# Altium footprint library PcbLib_Motorvermogen.PcbLib: 20 footprints (part 2 of 2)
Each footprint in its own frame and in the unit in brackets; x right, y up, seen from the top. Pads: shape width x height; smd on the part's side, far side on the other; paste and mask are expansions set on the pad; w line width, h text height; cw(c..) or ccw(c..) is an arc to the next point about the centre after c.
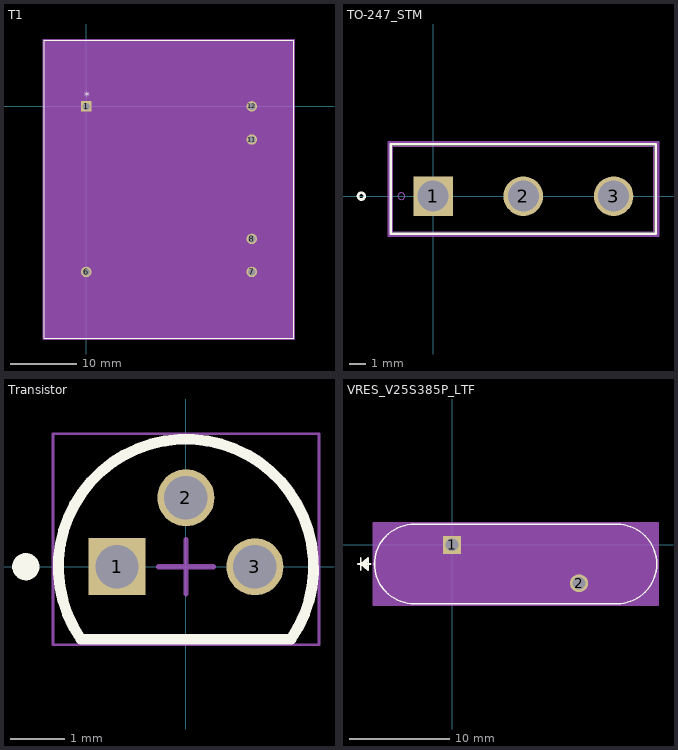
[diagram p1: the footprints below, top view; thin cyan lines are the x and y axes]

## T1 [mil]
pads (6):
  rect 62x62 / inner round 60 / far side rect 62x62 hole 42 paste-99999 mask+0: 1(0,0)
  round 62 / inner round 60 / far side round 62 hole 42 paste-99999 mask+0: 6(0,-984.25) 7(984.25,-984.25) 8(984.25,-787.4) 11(984.25,-196.85) 12(984.25,0)
Top Overlay:
  lines w6: -250.87,-1378.13 -250.87,393.87 1235.13,393.87 1235.13,-1378.13 -250.87,-1378.13
  text "*" at -12.5,36 h50
Mechanical 13:
  lines w0: 480.13,388.87 ccw(c492.13,388.87) 504.13,388.87
  lines w1: -245.87,-1373.13 -245.87,388.87 1230.13,388.87 1230.13,-1373.13 -245.87,-1373.13 ; -245.87,-1005.25 -21,-1005.25 -21,-963.25 -245.87,-963.25 -245.87,-1005.25 ; -245.87,-21 -21,-21 -21,21 -245.87,21 -245.87,-21 ; 1005.25,-1005.25 1005.25,-963.25 1230.13,-963.25 1230.13,-1005.25 1005.25,-1005.25 ; 1005.25,-808.4 1005.25,-766.4 1230.13,-766.4 1230.13,-808.4 1005.25,-808.4 ; 1005.25,-217.85 1005.25,-175.85 1230.13,-175.85 1230.13,-217.85 1005.25,-217.85 ; 1005.25,-21 1005.25,21 1230.13,21 1230.13,-21 1005.25,-21
  text "*" at -248.37,-25 h50
Mechanical 15:
  region: 1240.13,-1025.25 1240.13,41 1240.13,398.87 -255.87,398.87 -255.87,41 -255.87,-1025.25 -255.87,-1383.13 1240.13,-1383.13
  lines w6: -255.87,-1383.13 1240.13,-1383.13 1240.13,-1025.25 1240.13,41 1240.13,398.87 -255.87,398.87 -255.87,41 -255.87,-1025.25 -255.87,-1383.13
3D body "44239_MYR.step": height 1294.09, standoff -100, extent -5,-1373.11 993.86,388.86

## TO-247_STM [mil]
pads (3):
  rect 94x94 / inner round 60 / far side rect 94x94 hole 74 paste-99999 mask-47: 1(0,0)
  round 94 / inner round 60 / far side round 94 hole 74 paste-99999 mask-47: 2(214.57,0) 3(429.13,0)
Top Overlay:
  circle w6: c-170.43,0 r8
  lines w6: -100.43,-89.5 529.57,-89.5 529.57,123.5 -100.43,123.5 -100.43,-89.5
Mechanical 13:
  circle w0: c-75.43,0 r8
  lines w1: -95.43,-84.5 524.57,-84.5 524.57,118.5 -95.43,118.5 -95.43,-84.5
  lines w6: -10,0 10,0 ; 0,-10 0,10
Mechanical 15:
  lines w6: -105.43,-94.5 -105.43,128.5 534.57,128.5 534.57,-94.5 -105.43,-94.5

## Transistor [mm] "TO, 3-Leads, Body Dia 4.7mm, Pitch 1.27mm"
height 7.87
pads (3):
  rect 1.05x1.05 hole 0.8: 1(-1.27,0)
  round 1.05 hole 0.8: 2(0,1.27) 3(1.27,0)
Top Overlay:
  circle w0.25: c-2.95,0 r0.125
  lines w0.2: -1.934,-1.335 cw(c0,0) 1.934,-1.335 -1.934,-1.335
Mechanical 13:
  lines w0.1: -1.934,-1.335 cw(c0,0) 1.934,-1.335 -1.934,-1.335
Mechanical 15:
  lines w0.05: -2.45,-1.435 2.45,-1.435 2.45,2.45 -2.45,2.45 -2.45,-1.435
  lines w0.1: -0.5,0 0.5,0 ; 0,-0.5 0,0.5
3D body: height 7.87, standoff 2.54, extent -2.349,-1.334 2.357,2.359

## VRES_V25S385P_LTF [mil]
pads (2):
  rect 71x71 / inner round 60 / far side rect 71x71 hole 51 paste-99999 mask+0: 1(0,0)
  round 71 / inner round 60 / far side round 71 hole 51 paste-99999 mask+0: 2(500,-151.57)
Top Overlay:
  lines w6: -371,-75.79 -321,-75.79 ; -361,-100.79 -361,-50.79 ; -331,-95.79 -361,-75.79 ; -331,-90.79 -361,-75.79 ; -331,-85.79 -361,-75.79 ; -331,-80.79 -361,-75.79 ; -331,-70.79 -361,-75.79 ; -331,-65.79 -361,-75.79 ; -331,-60.79 -361,-75.79 ; -331,-55.79 -361,-75.79 ; -361,-75.79 -331,-100.79 -331,-50.79 -361,-75.79 ; -149.5,-232.29 cw(c-149.5,-75.79) -149.5,80.71 649.5,80.71 cw(c649.5,-75.79) 806,-75.79 cw(c649.5,-75.79) 649.5,-232.29 -149.5,-232.29
Mechanical 13:
  lines w0: -149.5,-227.29 cw(c-149.5,-75.79) -149.5,75.71 ; 649.5,-227.29 ccw(c649.5,-75.79) 649.5,75.71
  lines w1: -371,-75.79 -321,-75.79 ; -361,-100.79 -361,-50.79 ; -331,-95.79 -361,-75.79 ; -331,-90.79 -361,-75.79 ; -331,-85.79 -361,-75.79 ; -331,-80.79 -361,-75.79 ; -331,-70.79 -361,-75.79 ; -331,-65.79 -361,-75.79 ; -331,-60.79 -361,-75.79 ; -331,-55.79 -361,-75.79 ; -149.5,-227.29 649.5,-227.29 ; -149.5,75.71 649.5,75.71 ; -361,-75.79 -331,-100.79 -331,-50.79 -361,-75.79
Mechanical 15:
  region: 811,-237.29 -311,-237.29 -311,85.71 811,85.71
  lines w6: -311,-237.29 811,-237.29 811,85.71 -311,85.71 -311,-237.29